# Altium schematic symbol library 692121430000.SchLib: 1 symbol
Pins are listed as number, name and electrical type; pins without a type are passive.

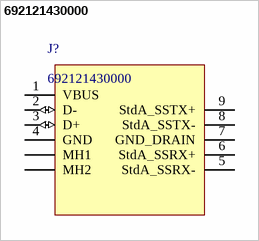
[diagram p0: symbol 692121430000]

## 692121430000
designator J?
USB3.0_Standard_A_9P-180
footprint USB3.0_Standard_A_9P-180 (Footprint not found)
pins: 1 VBUS (power), 2 D- (io), 3 D+ (io), 4 GND, 5 StdA_SSRX-, 6 StdA_SSRX+, 7 GND_DRAIN, 8 StdA_SSTX-, 9 StdA_SSTX+, MH1, MH2